# Altium footprint library SC82-AB.PcbLib: 1 footprints
Each footprint in its own frame and in the unit in brackets; x right, y up, seen from the top. Pads: shape width x height; smd on the part's side, far side on the other; paste and mask are expansions set on the pad; w line width, h text height; cw(c..) or ccw(c..) is an arc to the next point about the centre after c.
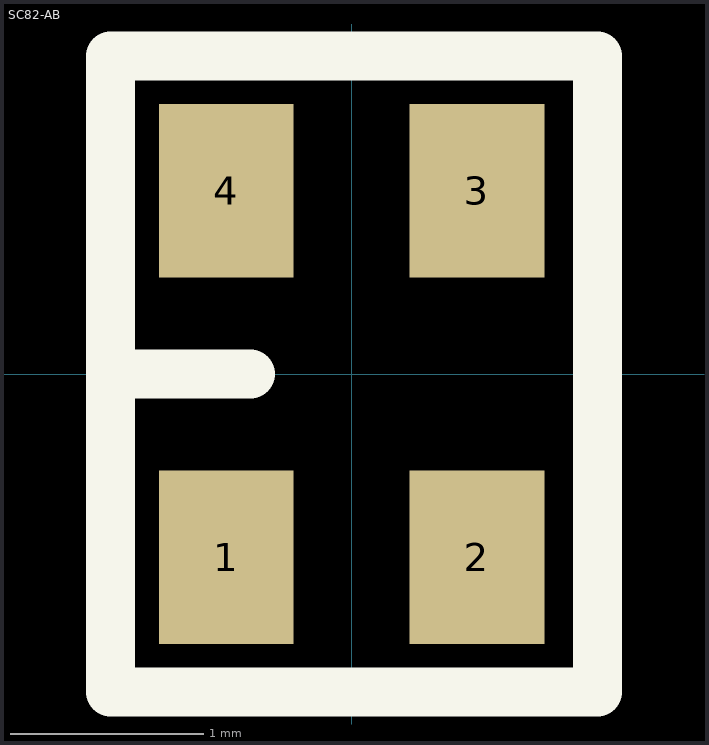
[diagram p0: the footprint, top view; thin cyan lines are the x and y axes]

## SC82-AB [mm]
height 1.45
pads (4):
  rect 0.7x0.9 smd: 1(-0.65,-0.95) 2(0.65,-0.95) 3(0.65,0.95) 4(-0.65,0.95)
Top Overlay:
  lines w0.254: -1.25,0 -0.525,0 ; -1.25,-1.65 1.275,-1.65 1.275,1.65 -1.25,1.65 -1.25,-1.65
3D body: height 1, standoff 0, extent -1.1,-1.125 1.1,1.075